# EAGLE library part 691309510008 (library Terminal_Blocks_Connectors_rev15e)
WR-TBL Serie 3095 - 5.08mm Reversed Gender Horizontal PCB Header , 8 pins=>Code : Con_TBL_Pluggable_5.08_PCB_THT_Simple_H_691309510008 <http://katalog.we-online.de/media/images/eican/Con_TBL_Pluggable_5.08_PCB_THT_Simple_H_6913095100xx_pf2.jpg> Details see: http://katalog.we-online.de/en/em/691_309_510_0xx Created 2014-06-25, Karrer Zheng 2014 (C) Würth Elektronik
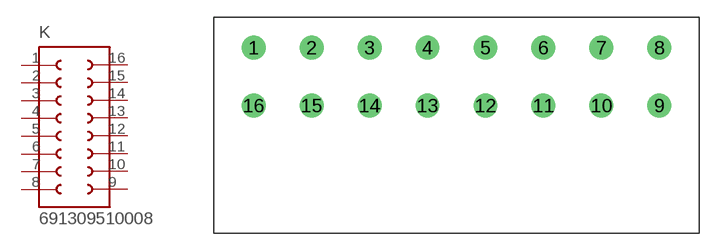
[diagram p180: symbol with the pads of 691309510008; footprint 691309510008]

Designator prefix K

## 691309510008  [691309510008]
1  1  pas
2  2  pas
3  3  pas
4  4  pas
5  5  pas
6  6  pas
7  7  pas
8  8  pas
9  9  pas
10  10  pas
11  11  pas
12  12  pas
13  13  pas
14  14  pas
15  15  pas
16  16  pas

## Footprint 691309510008 (pad centres in mm)
WR-TBL Serie 3075 - 5.08mm Reversed Gender Vertiacal PCB Header , 8 pins
drill 1.4: 1 -20.32,0; 2 -15.24,0; 3 -10.16,0; 4 -5.08,0; 5 0,0; 6 5.08,0; 7 10.16,0; 8 15.24,0; 9 15.24,-5.08; 10 10.16,-5.08; 11 5.08,-5.08; 12 0,-5.08; 13 -5.08,-5.08; 14 -10.16,-5.08; 15 -15.24,-5.08; 16 -20.32,-5.08